# Altium footprint library pcblibLS.PcbLib: 49 footprints (part 1 of 4)
Each footprint in its own frame and in the unit in brackets; x right, y up, seen from the top. Pads: shape width x height; smd on the part's side, far side on the other; paste and mask are expansions set on the pad; w line width, h text height; cw(c..) or ccw(c..) is an arc to the next point about the centre after c.
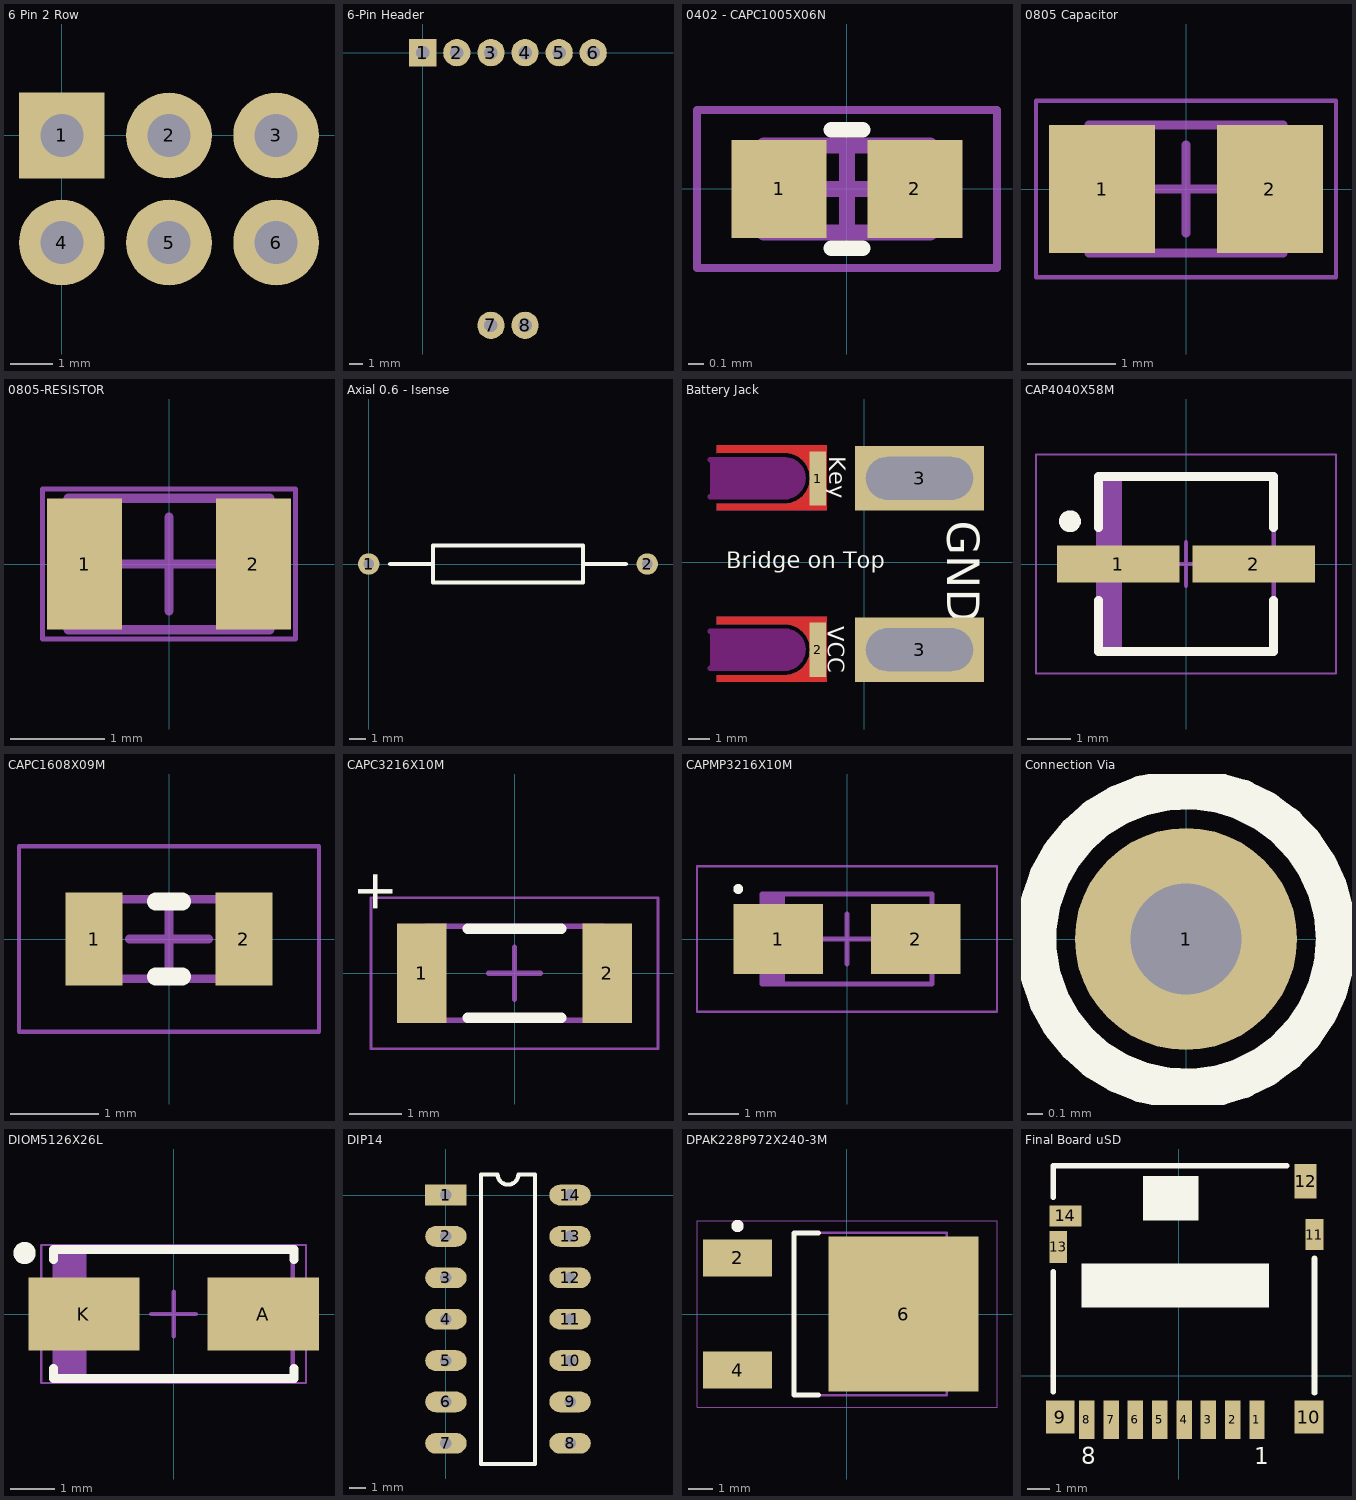
[diagram p0: the footprints below, top view; thin cyan lines are the x and y axes]

## 6 Pin 2 Row [mil]
pads (6):
  rect 80x80 hole 40: 1(0,0)
  round 80 hole 40: 2(100,0) 3(200,0) 4(0,-100) 5(100,-100) 6(200,-100)

## 6-Pin Header [mil]
pads (8):
  rect 80x80 hole 39.37: 1(0,0)
  round 80 hole 39.37: 2(100,0) 3(200,0) 4(300,0) 5(400,0) 6(500,0) 7(200,-800) 8(300,-800)

## 0402 - CAPC1005X06N [mm] "Chip Capacitor, 2-Leads, Body 1.00x0.50mm, IPC Medium Density"
height 0.55
pads (2):
  rect 0.6x0.62 smd: 1(-0.43,0) 2(0.43,0)
Top Overlay:
  lines w0.1: -0.1,-0.375 0.1,-0.375 ; -0.1,0.375 0.1,0.375
Mechanical 13:
  lines w0.1: -0.525,-0.275 -0.525,0.275 0.525,0.275 0.525,-0.275 -0.525,-0.275
Mechanical 15:
  lines w0.05: -0.95,-0.5 -0.95,0.5 0.95,0.5 0.95,-0.5 -0.95,-0.5
  lines w0.1: -0.275,0 0.275,0 ; 0,-0.275 0,0.275
3D body: height 0.55, standoff 0, extent -0.225,-0.275 0.225,0.275
3D body: height 0.55, standoff 0, extent -0.525,-0.275 -0.225,0.275
3D body: height 0.55, standoff 0, extent 0.225,-0.275 0.525,0.275

## 0805 Capacitor [mm] "Chip Capacitor, 2-Leads, Body 2.00x1.25mm, IPC Medium Density"
height 1.45
pads (2):
  rect 1.2x1.45 smd: 1(-0.95,0) 2(0.95,0)
Mechanical 13:
  lines w0.1: -1.1,-0.725 1.1,-0.725 1.1,0.725 -1.1,0.725 -1.1,-0.725
Mechanical 15:
  lines w0.05: -1.7,-1 1.7,-1 1.7,1 -1.7,1 -1.7,-1
  lines w0.1: -0.5,0 0.5,0 ; 0,-0.5 0,0.5
3D body: height 1.45, standoff 0, extent 0.62,-0.725 1.1,0.725
3D body: height 1.45, standoff 0, extent -1.1,-0.725 -0.62,0.725
3D body: height 1.45, standoff 0, extent -0.62,-0.725 0.62,0.725

## 0805-RESISTOR [mm] "Chip Capacitor, 2-Leads, Body 2.00x1.25mm, IPC High Density"
height 0.65
pads (2):
  rect 0.8x1.4 smd: 1(-0.9,0) 2(0.9,0)
Mechanical 13:
  lines w0.1: -1.075,-0.7 -1.075,0.7 1.075,0.7 1.075,-0.7 -1.075,-0.7
Mechanical 15:
  lines w0.05: -1.35,-0.8 -1.35,0.8 1.35,0.8 1.35,-0.8 -1.35,-0.8
  lines w0.1: -0.5,0 0.5,0 ; 0,-0.5 0,0.5
3D body: height 0.65, standoff 0, extent -0.675,-0.7 0.675,0.7
3D body: height 0.65, standoff 0, extent -1.075,-0.7 -0.675,0.7
3D body: height 0.65, standoff 0, extent 0.675,-0.7 1.075,0.7

## Axial 0.6 - Isense [mm]
pads (2):
  round 1.27 hole 0.635: 1(0,0) 2(16.51,0)
Top Overlay:
  lines w0.254: 1.27,0 3.81,0 ; 12.7,0 15.24,0 ; 3.81,0 3.81,-1.1 12.7,-1.1 12.7,1.1 3.81,1.1 3.81,0

## Battery Jack [mm]
pads (4):
  rect 0.762x2.54 all layers, no hole: 1(-2.175,3.9) 2(-2.175,-4.089)
  rect 6x3 hole 2 slot 5 at 0 deg: 3(2.568,-4.089) 3(2.568,3.912)
Top Layer:
  region: -6.89,5.086 -3.702,5.096 -3.399,5.056 -3.116,4.939 -2.873,4.753 -2.687,4.51 -2.57,4.228 -2.53,3.924 -2.571,3.613 -2.691,3.322 -2.882,3.073 -3.132,2.882 -3.422,2.761 -3.734,2.72 -3.734,2.73 -6.89,2.73 -6.89,2.426 -1.753,2.426 -1.753,5.455 -6.89,5.455
  region: -6.889,-2.915 -3.702,-2.905 -3.398,-2.945 -3.115,-3.062 -2.873,-3.248 -2.686,-3.491 -2.569,-3.774 -2.529,-4.077 -2.57,-4.389 -2.69,-4.679 -2.882,-4.929 -3.131,-5.12 -3.422,-5.24 -3.733,-5.281 -3.733,-5.271 -6.889,-5.271 -6.889,-5.576 -1.752,-5.576 -1.752,-2.547 -6.889,-2.547
Bottom Layer:
  region: -6.89,5.086 -3.702,5.096 -3.399,5.056 -3.116,4.939 -2.873,4.753 -2.687,4.51 -2.57,4.228 -2.53,3.924 -2.571,3.613 -2.691,3.322 -2.882,3.073 -3.132,2.882 -3.422,2.761 -3.734,2.72 -3.734,2.73 -6.89,2.73 -6.89,2.426 -1.753,2.426 -1.753,5.455 -6.89,5.455
  region: -6.889,-2.915 -3.702,-2.905 -3.398,-2.945 -3.115,-3.062 -2.873,-3.248 -2.686,-3.491 -2.569,-3.774 -2.529,-4.077 -2.57,-4.389 -2.69,-4.679 -2.882,-4.929 -3.131,-5.12 -3.422,-5.24 -3.733,-5.281 -3.733,-5.271 -6.889,-5.271 -6.889,-5.576 -1.752,-5.576 -1.752,-2.547 -6.889,-2.547
Top Overlay:
  text "GND" at 3.864,1.931 h1.52
  text "Bridge on Top" at -6.452,-0.279 h0.76
  text "VCC" at -1.725,-3 h0.76
  text "Key" at -1.65,4.95 h0.76
Top Solder:
  region: -6.98,4.981 -3.447,4.981 -2.881,4.712 -2.774,4.572 -2.662,4.302 -2.624,4.012 -2.635,3.927 -2.634,3.927 -2.624,3.845 -2.663,3.547 -2.778,3.269 -2.809,3.229 -2.812,3.231 -3.104,2.953 -3.323,2.828 -6.98,2.828 -6.98,2.327 -1.639,2.327 -1.639,5.559 -6.98,5.559
  region: -6.98,-3.008 -3.447,-3.008 -2.881,-3.278 -2.774,-3.417 -2.662,-3.688 -2.624,-3.978 -2.635,-4.063 -2.634,-4.062 -2.624,-4.144 -2.663,-4.442 -2.778,-4.72 -2.809,-4.76 -2.812,-4.758 -3.104,-5.036 -3.323,-5.161 -6.98,-5.161 -6.98,-5.663 -1.639,-5.663 -1.639,-2.43 -6.98,-2.43
Bottom Solder:
  region: -6.98,-3.008 -3.447,-3.008 -2.881,-3.278 -2.774,-3.417 -2.662,-3.688 -2.623,-3.978 -2.635,-4.063 -2.634,-4.062 -2.624,-4.144 -2.663,-4.442 -2.778,-4.72 -2.809,-4.76 -2.812,-4.758 -3.104,-5.036 -3.323,-5.161 -6.98,-5.161 -6.98,-5.663 -1.639,-5.663 -1.639,-2.43 -6.98,-2.43
  region: -6.98,4.981 -3.447,4.981 -2.881,4.712 -2.774,4.572 -2.662,4.302 -2.623,4.012 -2.635,3.927 -2.634,3.927 -2.624,3.845 -2.663,3.547 -2.778,3.269 -2.809,3.229 -2.812,3.231 -3.104,2.953 -3.323,2.828 -6.98,2.828 -6.98,2.327 -1.639,2.327 -1.639,5.559 -6.98,5.559
Keep-Out Layer:
  board cut-out: -3.725,-3.219 -3.503,-3.248 -3.296,-3.334 -3.119,-3.47 -2.983,-3.647 -2.897,-3.854 -2.868,-4.076 -2.875,-4.076 -2.867,-4.076 -2.898,-4.304 -2.986,-4.517 -3.126,-4.7 -3.309,-4.84 -3.522,-4.928 -3.75,-4.959 -3.75,-4.951 -7.2,-4.951 -7.2,-3.226
  board cut-out: -3.725,4.782 -3.503,4.753 -3.296,4.667 -3.119,4.531 -2.983,4.354 -2.897,4.147 -2.868,3.925 -2.875,3.925 -2.867,3.925 -2.898,3.697 -2.986,3.484 -3.126,3.301 -3.309,3.161 -3.522,3.073 -3.75,3.042 -3.75,3.05 -7.2,3.05 -7.2,4.775
  lines w0.254: -7.2,-3.226 -3.725,-3.226 ; -7.2,4.775 -3.725,4.775 ; -7.192,-4.959 -3.75,-4.959 ccw(c-3.75,-4.076) -2.868,-4.076 ; -7.192,3.042 -3.75,3.042 ccw(c-3.75,3.925) -2.868,3.925 ; -3.718,-3.226 cw(c-3.718,-4.076) -2.868,-4.076 ; -3.718,4.775 cw(c-3.718,3.925) -2.868,3.925

## CAP4040X58M [mm] "AL-ELECT Capacitor, 2-Leads, Body 4.00x4.00mm, IPC Low Density"
height 5.8
pads (2):
  rect 2.8x0.85 smd: 1(-1.55,0) 2(1.55,0)
Top Overlay:
  circle w0.25: c-2.65,0.975 r0.125
  lines w0.2: -2,-0.825 -2,-2 2,-2 2,-0.825 ; -2,0.825 -2,2 2,2 2,0.825
Mechanical 13:
  rectangle: -2,-2 -1.462,2
  lines w0.1: -2,-2 -2,2 2,2 2,-2 -2,-2
Mechanical 15:
  lines w0.05: -3.425,-2.5 -3.425,2.5 3.425,2.5 3.425,-2.5 -3.425,-2.5
  lines w0.1: -0.5,0 0.5,0 ; 0,-0.5 0,0.5
3D body: height 5.8, standoff 0, extent -2,-2 2,2

## CAPC1608X09M [mm] "0603 - Chip Capacitor, 2-Leads, Body 1.60x0.80mm, IPC Low Density"
height 0.9
pads (2):
  rect 0.65x1.05 smd: 1(-0.85,0) 2(0.85,0)
Top Overlay:
  lines w0.2: -0.15,-0.425 0.15,-0.425 ; -0.15,0.425 0.15,0.425
Mechanical 13:
  lines w0.1: -0.85,-0.45 0.85,-0.45 0.85,0.45 -0.85,0.45 -0.85,-0.45
Mechanical 15:
  lines w0.05: -1.7,-1.05 1.7,-1.05 1.7,1.05 -1.7,1.05 -1.7,-1.05
  lines w0.1: -0.45,0 0.45,0 ; 0,-0.45 0,0.45
3D body: height 0.9, standoff 0, extent 0.65,-0.45 0.85,0.45
3D body: height 0.9, standoff 0, extent -0.85,-0.45 -0.65,0.45
3D body: height 0.9, standoff 0, extent -0.65,-0.45 0.65,0.45

## CAPC3216X10M [mm] "Chip Capacitor, 2-Leads, Body 3.20x1.60mm, IPC Low Density"
height 1
pads (2):
  rect 0.95x1.9 smd: 1(-1.775,0) 2(1.775,0)
Top Overlay:
  lines w0.2: -0.9,-0.85 0.9,-0.85 ; -0.9,0.85 0.9,0.85
  text "+" at -3,2 h0.76
Mechanical 13:
  lines w0.1: -1.7,-0.9 -1.7,0.9 1.7,0.9 1.7,-0.9 -1.7,-0.9
Mechanical 15:
  lines w0.05: -2.75,-1.45 -2.75,1.45 2.75,1.45 2.75,-1.45 -2.75,-1.45
  lines w0.1: -0.5,0 0.5,0 ; 0,-0.5 0,0.5
3D body: height 1, standoff 0, extent -1.5,-0.9 1.5,0.9
3D body: height 1, standoff 0, extent -1.7,-0.9 -1.5,0.9
3D body: height 1, standoff 0, extent 1.5,-0.9 1.7,0.9

## CAPMP3216X10M [mm] "POSCAP - Molded Capacitor, 2-Leads, Body 3.20x1.60mm, IPC Low Density"
height 1
pads (2):
  rect 1.8x1.4 smd: 1(-1.375,0) 2(1.375,0)
Top Overlay:
  circle w0.1: c-2.175,1 r0.05
Mechanical 13:
  rectangle: -1.7,-0.9 -1.243,0.9
  lines w0.1: -1.7,-0.9 1.7,-0.9 1.7,0.9 -1.7,0.9 -1.7,-0.9
Mechanical 15:
  lines w0.05: -3,-1.45 3,-1.45 3,1.45 -3,1.45 -3,-1.45
  lines w0.1: -0.5,0 0.5,0 ; 0,-0.5 0,0.5
3D body: height 1, standoff 0, extent -1.7,-0.9 1.7,0.9

## Connection Via [mm]
pads (1):
  round 1.4 hole 0.7: 1(0,0)
Top Overlay:
  circle w0.254: c0,0 r0.945
Bottom Overlay:
  circle w0.254: c0,0 r0.945

## DIOM5126X26L [mm] "Molded Diode, 2-Leads, Body 5.07x2.57mm, IPC High Density"
height 2.64
pads (2):
  rect 2.5x1.64 smd: A(2.015,0) K(-2.015,0)
Top Overlay:
  circle w0.25: c-3.35,1.37 r0.125
  lines w0.2: -2.7,-1.22 -2.7,-1.45 2.7,-1.45 2.7,-1.22 ; -2.7,1.22 -2.7,1.45 2.7,1.45 2.7,1.22
Mechanical 13:
  rectangle: -2.675,-1.45 -1.955,1.45
  lines w0.1: -2.675,-1.45 -2.675,1.45 2.675,1.45 2.675,-1.45 -2.675,-1.45
Mechanical 15:
  lines w0.05: -2.975,-1.55 -2.975,1.55 2.975,1.55 2.975,-1.55 -2.975,-1.55
  lines w0.1: -0.5,0 0.5,0 ; 0,-0.5 0,0.5
3D body: height 2.64, standoff 0, extent -2.675,-1.45 2.675,1.45

## DIP14 [mil]
pads (14):
  rect 100x50 hole 28: 1(0,0)
  oval 100x50 hole 28: 2(0,-100) 3(0,-200) 4(0,-300) 5(0,-400) 6(0,-500) 7(0,-600) 8(300,-600) 9(300,-500) 10(300,-400) 11(300,-300) 12(300,-200) 13(300,-100) 14(300,0)
Top Overlay:
  lines w10: 85,-650 215,-650 215,50 175,50 cw(c150,50) 125,50 85,50 85,-650

## DPAK228P972X240-3M [mm] "D-PAK, 3-Pads, Body 6.20x6.66mm (max), IPC Low Density"
height 2.4
pads (3):
  rect 2.8x1.5 smd: 2(-4.45,2.28) 4(-4.45,-2.28)
  rect 6.1x6.3 smd: 6(2.3,0)
Top Overlay:
  circle w0.25: c-4.45,3.58 r0.125
  lines w0.2: -1.15,-3.3 -2.15,-3.3 -2.15,3.3 -1.15,3.3
Mechanical 13:
  lines w0.1: -2.15,-3.3 4.05,-3.3 4.05,3.3 -2.15,3.3 -2.15,-3.3
Mechanical 15:
  lines w0.05: -6.1,-3.8 6.1,-3.8 6.1,3.8 -6.1,3.8 -6.1,-3.8
  lines w0.1: -0.5,0 0.5,0 ; 0,-0.5 0,0.5
3D body: height 2.4, standoff 0.03, extent -2.15,-3.3 4.05,3.3

## Final Board uSD [mm]
height 1.55
pads (14):
  rect 0.7x1.75 smd: 1(3.55,-2) 2(2.45,-2) 3(1.35,-2) 4(0.25,-2) 5(-0.85,-2) 6(-1.95,-2) 7(-3.05,-2) 8(-4.15,-2)
  rect 1.3x1.5 smd: 9(-5.35,-1.875) 10(5.9,-1.875)
  rect 0.8x1.4 smd: 11(6.15,6.375)
  rect 1x1.55 smd: 12(5.75,8.8)
  rect 0.8x1.45 smd: 13(-5.45,5.825)
  rect 1.45x0.95 smd: 14(-5.125,7.225)
Top Overlay:
  region: 0.9,9.025 -1.6,9.025 -1.6,7.025 0.9,7.025
  region: 4.1,5.075 -4.4,5.075 -4.4,3.075 4.1,3.075
  lines w0.254: -5.675,-0.725 -5.675,4.7 ; -5.675,8.075 -5.675,9.5 4.9,9.5 ; 6.15,-0.775 6.15,5.3
  text "1" at 3.423,-4 h0.76
  text "8" at -4.404,-4 h0.76